# EAGLE library part 87758-1816 (library con-molex)
18 Pin - 2mm Dual Row Single Wafer, Vertical T/H HDR Source: http://www.molex.com/pdm_docs/sd/877580616_sd.pdf
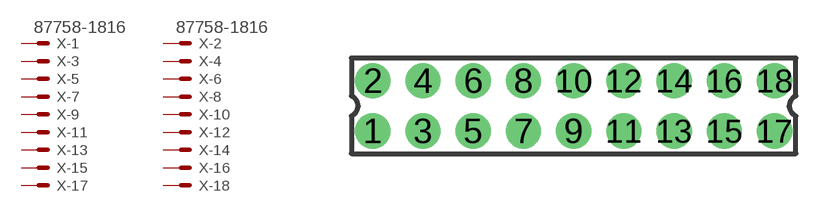
[diagram p202: symbol with the pads of 87758-1816; footprint 87758-1816]

Designator prefix X; gates -1=MV -2=MV -3=M -4=M -5=M -6=M -7=M -8=M -9=M -10=M -11=M -12=M -13=M -14=M -15=M -16=M -17=M -18=M

## 87758-1816 (MF: MOLEX; MPN: 87758-1816; OC_FARNELL: unknown; OC_NEWARK: 25M5675)  [87758-1816]
1  -1:S  pas
2  -2:S  pas
3  -3:S  pas
4  -4:S  pas
5  -5:S  pas
6  -6:S  pas
7  -7:S  pas
8  -8:S  pas
9  -9:S  pas
10  -10:S  pas
11  -11:S  pas
12  -12:S  pas
13  -13:S  pas
14  -14:S  pas
15  -15:S  pas
16  -16:S  pas
17  -17:S  pas
18  -18:S  pas

## Footprint 87758-1816 (pad centres in mm)
2.00mm Pitch Milli-Grid™ Header, Through Hole, Vertical, 18 Circuits, 0.38µm Gold (Au) Selective Plating, Pocket Tray Packaging, Lead-Free Datasheet <http://www.molex.com/pdm_docs/sd/877581816_sd.pdf>
drill 0.9 pad 1.27: 1 -8,-1; 2 -8,1; 3 -6,-1; 4 -6,1; 5 -4,-1; 6 -4,1; 7 -2,-1; 8 -2,1; 9 0,-1; 10 0,1; 11 2,-1; 12 2,1; 13 4,-1; 14 4,1; 15 6,-1; 16 6,1; 17 8,-1; 18 8,1